# Altium footprint library R20_PCBM.PcbLib: 22 footprints (part 4 of 5)
Each footprint in its own frame and in the unit in brackets; x right, y up, seen from the top. Pads: shape width x height; smd on the part's side, far side on the other; paste and mask are expansions set on the pad; w line width, h text height; cw(c..) or ccw(c..) is an arc to the next point about the centre after c.
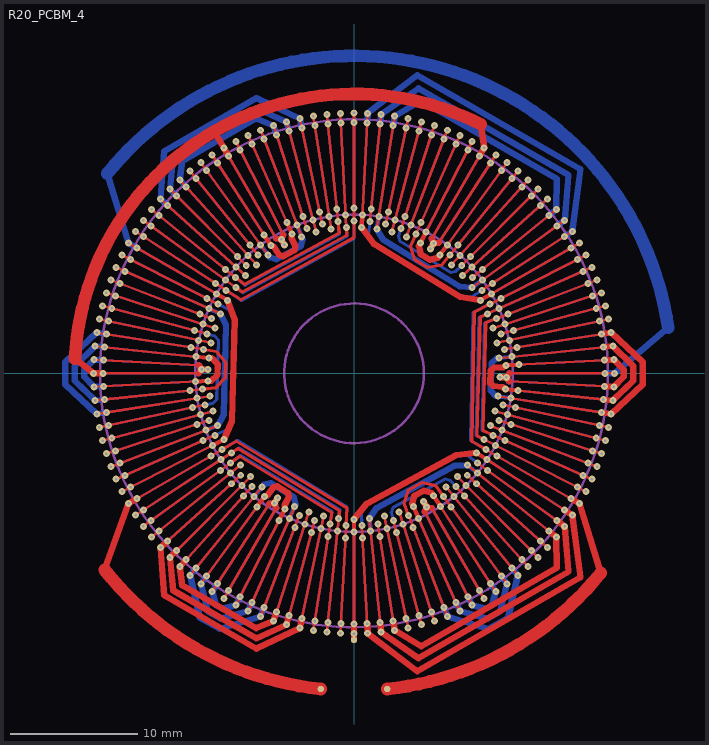
[diagram p3: the footprint, top view; thin cyan lines are the x and y axes]

## R20_PCBM_4 [mm]
pads (3):
  round 0.5 smd paste-2539.97 mask+0.102: A(-2.613,-24.863) B(0,-21) C(2.613,-24.863)
via 0,19.75 diameter 0.55 hole 0.2
via -1.034,19.723 diameter 0.55 hole 0.2
via -2.064,19.642 diameter 0.55 hole 0.2
via -3.09,19.507 diameter 0.55 hole 0.2
via -4.106,19.318 diameter 0.55 hole 0.2
via -5.112,19.077 diameter 0.55 hole 0.2
via -6.103,18.783 diameter 0.55 hole 0.2
via -7.078,18.438 diameter 0.55 hole 0.2
via -8.033,18.042 diameter 0.55 hole 0.2
via -8.966,17.597 diameter 0.55 hole 0.2
via -9.875,17.104 diameter 0.55 hole 0.2
via -10.757,16.564 diameter 0.55 hole 0.2
via -11.609,15.978 diameter 0.55 hole 0.2
via -12.429,15.349 diameter 0.55 hole 0.2
via -13.215,14.677 diameter 0.55 hole 0.2
via -13.965,13.965 diameter 0.55 hole 0.2
via -14.677,13.215 diameter 0.55 hole 0.2
via -15.349,12.429 diameter 0.55 hole 0.2
via -15.978,11.609 diameter 0.55 hole 0.2
via -16.564,10.757 diameter 0.55 hole 0.2
via -17.104,9.875 diameter 0.55 hole 0.2
via -17.597,8.966 diameter 0.55 hole 0.2
via -18.042,8.033 diameter 0.55 hole 0.2
via -18.438,7.078 diameter 0.55 hole 0.2
via -18.783,6.103 diameter 0.55 hole 0.2
via -19.077,5.112 diameter 0.55 hole 0.2
via -19.318,4.106 diameter 0.55 hole 0.2
via -19.507,3.09 diameter 0.55 hole 0.2
via -19.642,2.064 diameter 0.55 hole 0.2
via -19.723,1.034 diameter 0.55 hole 0.2
via -19.75,0 diameter 0.55 hole 0.2
via -19.723,-1.034 diameter 0.55 hole 0.2
via -19.642,-2.064 diameter 0.55 hole 0.2
via -19.507,-3.09 diameter 0.55 hole 0.2
via -19.318,-4.106 diameter 0.55 hole 0.2
via -19.077,-5.112 diameter 0.55 hole 0.2
via -18.783,-6.103 diameter 0.55 hole 0.2
via -18.438,-7.078 diameter 0.55 hole 0.2
via -18.042,-8.033 diameter 0.55 hole 0.2
via -17.597,-8.966 diameter 0.55 hole 0.2
via -18.266,9.307 diameter 0.55 hole 0.2
via -18.728,8.338 diameter 0.55 hole 0.2
via -19.138,7.347 diameter 0.55 hole 0.2
via -19.801,5.306 diameter 0.55 hole 0.2
via -19.497,6.335 diameter 0.55 hole 0.2
via -20.052,4.262 diameter 0.55 hole 0.2
via -18.266,-9.307 diameter 0.55 hole 0.2
via -19.138,-7.347 diameter 0.55 hole 0.2
via -19.801,-5.306 diameter 0.55 hole 0.2
via -20.248,-3.207 diameter 0.55 hole 0.2
via -20.472,-1.073 diameter 0.55 hole 0.2
via -20.472,1.073 diameter 0.55 hole 0.2
via -20.248,3.207 diameter 0.55 hole 0.2
via -20.388,2.143 diameter 0.55 hole 0.2
via -20.388,-2.143 diameter 0.55 hole 0.2
via -20.052,-4.262 diameter 0.55 hole 0.2
via -19.497,-6.335 diameter 0.55 hole 0.2
via -18.728,-8.338 diameter 0.55 hole 0.2
via -1.073,20.472 diameter 0.55 hole 0.2
via -2.143,20.388 diameter 0.55 hole 0.2
via -3.207,20.248 diameter 0.55 hole 0.2
via -5.306,19.801 diameter 0.55 hole 0.2
via -4.262,20.052 diameter 0.55 hole 0.2
via -6.335,19.497 diameter 0.55 hole 0.2
via -17.193,11.165 diameter 0.55 hole 0.2
via -15.931,12.901 diameter 0.55 hole 0.2
via -14.496,14.496 diameter 0.55 hole 0.2
via -12.901,15.931 diameter 0.55 hole 0.2
via -11.165,17.193 diameter 0.55 hole 0.2
via -9.307,18.266 diameter 0.55 hole 0.2
via -7.347,19.138 diameter 0.55 hole 0.2
via -8.338,18.728 diameter 0.55 hole 0.2
via -12.05,16.585 diameter 0.55 hole 0.2
via -13.717,15.234 diameter 0.55 hole 0.2
via -15.234,13.717 diameter 0.55 hole 0.2
via -16.585,12.05 diameter 0.55 hole 0.2
via -20.5,0 diameter 0.55 hole 0.2
via -10.25,17.754 diameter 0.55 hole 0.2
via 0,20.5 diameter 0.55 hole 0.2
via -17.754,10.25 diameter 0.55 hole 0.2
via -17.104,-9.875 diameter 0.55 hole 0.2
via -16.564,-10.757 diameter 0.55 hole 0.2
via -15.978,-11.609 diameter 0.55 hole 0.2
via -15.349,-12.429 diameter 0.55 hole 0.2
via -14.677,-13.215 diameter 0.55 hole 0.2
via -13.965,-13.965 diameter 0.55 hole 0.2
via -13.215,-14.677 diameter 0.55 hole 0.2
via -12.429,-15.349 diameter 0.55 hole 0.2
via -11.609,-15.978 diameter 0.55 hole 0.2
via -10.757,-16.564 diameter 0.55 hole 0.2
via -9.875,-17.104 diameter 0.55 hole 0.2
via -8.966,-17.597 diameter 0.55 hole 0.2
via -8.033,-18.042 diameter 0.55 hole 0.2
via -7.078,-18.438 diameter 0.55 hole 0.2
via -6.103,-18.783 diameter 0.55 hole 0.2
via -5.112,-19.077 diameter 0.55 hole 0.2
via -4.106,-19.318 diameter 0.55 hole 0.2
via -3.09,-19.507 diameter 0.55 hole 0.2
via -2.064,-19.642 diameter 0.55 hole 0.2
via -1.034,-19.723 diameter 0.55 hole 0.2
via 0,-19.75 diameter 0.55 hole 0.2
via 1.034,-19.723 diameter 0.55 hole 0.2
via 2.064,-19.642 diameter 0.55 hole 0.2
via 3.09,-19.507 diameter 0.55 hole 0.2
via 4.106,-19.318 diameter 0.55 hole 0.2
via 5.112,-19.077 diameter 0.55 hole 0.2
via 6.103,-18.783 diameter 0.55 hole 0.2
via 7.078,-18.438 diameter 0.55 hole 0.2
via 8.033,-18.042 diameter 0.55 hole 0.2
via 8.966,-17.597 diameter 0.55 hole 0.2
via 9.875,-17.104 diameter 0.55 hole 0.2
via 10.757,-16.564 diameter 0.55 hole 0.2
via 11.609,-15.978 diameter 0.55 hole 0.2
via 12.429,-15.349 diameter 0.55 hole 0.2
via 13.215,-14.677 diameter 0.55 hole 0.2
via 13.965,-13.965 diameter 0.55 hole 0.2
via 14.677,-13.215 diameter 0.55 hole 0.2
via 15.349,-12.429 diameter 0.55 hole 0.2
via 15.978,-11.609 diameter 0.55 hole 0.2
via 16.564,-10.757 diameter 0.55 hole 0.2
via 1.073,-20.472 diameter 0.55 hole 0.2
via 2.143,-20.388 diameter 0.55 hole 0.2
via 3.207,-20.248 diameter 0.55 hole 0.2
via 5.306,-19.801 diameter 0.55 hole 0.2
via 4.262,-20.052 diameter 0.55 hole 0.2
via 6.335,-19.497 diameter 0.55 hole 0.2
via 17.193,-11.165 diameter 0.55 hole 0.2
via 15.931,-12.901 diameter 0.55 hole 0.2
via 14.496,-14.496 diameter 0.55 hole 0.2
via 12.901,-15.931 diameter 0.55 hole 0.2
via 11.165,-17.193 diameter 0.55 hole 0.2
via 9.307,-18.266 diameter 0.55 hole 0.2
via 7.347,-19.138 diameter 0.55 hole 0.2
via 8.338,-18.728 diameter 0.55 hole 0.2
via 12.05,-16.585 diameter 0.55 hole 0.2
via 13.717,-15.234 diameter 0.55 hole 0.2
via 15.234,-13.717 diameter 0.55 hole 0.2
via 16.585,-12.05 diameter 0.55 hole 0.2
via -17.193,-11.165 diameter 0.55 hole 0.2
via -16.585,-12.05 diameter 0.55 hole 0.2
via -15.931,-12.901 diameter 0.55 hole 0.2
via -14.496,-14.496 diameter 0.55 hole 0.2
via -15.234,-13.717 diameter 0.55 hole 0.2
via -13.717,-15.234 diameter 0.55 hole 0.2
via -1.073,-20.472 diameter 0.55 hole 0.2
via -3.207,-20.248 diameter 0.55 hole 0.2
via -5.306,-19.801 diameter 0.55 hole 0.2
via -7.347,-19.138 diameter 0.55 hole 0.2
via -9.307,-18.266 diameter 0.55 hole 0.2
via -11.165,-17.193 diameter 0.55 hole 0.2
via -12.901,-15.931 diameter 0.55 hole 0.2
via -12.05,-16.585 diameter 0.55 hole 0.2
via -8.338,-18.728 diameter 0.55 hole 0.2
via -6.335,-19.497 diameter 0.55 hole 0.2
via -4.262,-20.052 diameter 0.55 hole 0.2
via -2.143,-20.388 diameter 0.55 hole 0.2
via 10.25,-17.754 diameter 0.55 hole 0.2
via -10.25,-17.754 diameter 0.55 hole 0.2
via -17.754,-10.25 diameter 0.55 hole 0.2
via 0,-20.5 diameter 0.55 hole 0.2
via 0,13 diameter 0.55 hole 0.2
via -0.654,12.483 diameter 0.55 hole 0.2
via -1.359,12.929 diameter 0.55 hole 0.2
via -1.955,12.346 diameter 0.55 hole 0.2
via -2.703,12.716 diameter 0.55 hole 0.2
via -3.235,12.074 diameter 0.55 hole 0.2
via -4.017,12.364 diameter 0.55 hole 0.2
via -4.48,11.67 diameter 0.55 hole 0.2
via -11.138,-5.675 diameter 0.55 hole 0.2
via -11.876,-5.288 diameter 0.55 hole 0.2
via -5.288,11.876 diameter 0.55 hole 0.2
via -7.08,10.903 diameter 0.55 hole 0.2
via -7.347,10.113 diameter 0.55 hole 0.2
via -8.181,10.103 diameter 0.55 hole 0.2
via -8.364,9.289 diameter 0.55 hole 0.2
via -9.192,9.192 diameter 0.55 hole 0.2
via -9.289,8.364 diameter 0.55 hole 0.2
via -10.103,8.181 diameter 0.55 hole 0.2
via -10.113,7.347 diameter 0.55 hole 0.2
via -10.903,7.08 diameter 0.55 hole 0.2
via -10.825,6.25 diameter 0.55 hole 0.2
via -11.583,5.902 diameter 0.55 hole 0.2
via -11.419,5.084 diameter 0.55 hole 0.2
via -12.137,4.659 diameter 0.55 hole 0.2
via -11.888,3.863 diameter 0.55 hole 0.2
via -12.557,3.365 diameter 0.55 hole 0.2
via -12.227,2.599 diameter 0.55 hole 0.2
via -12.84,2.034 diameter 0.55 hole 0.2
via -12.431,1.307 diameter 0.55 hole 0.2
via -12.483,-0.654 diameter 0.55 hole 0.2
via -12.929,-1.359 diameter 0.55 hole 0.2
via -12.346,-1.955 diameter 0.55 hole 0.2
via -12.716,-2.703 diameter 0.55 hole 0.2
via -12.074,-3.235 diameter 0.55 hole 0.2
via -12.364,-4.017 diameter 0.55 hole 0.2
via -11.67,-4.48 diameter 0.55 hole 0.2
via -9.959,5.75 diameter 0.55 hole 0.2
via -10.692,5.448 diameter 0.55 hole 0.2
via -10.506,4.677 diameter 0.55 hole 0.2
via -11.203,4.3 diameter 0.55 hole 0.2
via -10.937,3.554 diameter 0.55 hole 0.2
via -11.591,3.106 diameter 0.55 hole 0.2
via -11.249,2.391 diameter 0.55 hole 0.2
via -11.852,1.877 diameter 0.55 hole 0.2
via -11.437,1.202 diameter 0.55 hole 0.2
via -11.484,-0.602 diameter 0.55 hole 0.2
via -11.934,-1.254 diameter 0.55 hole 0.2
via -11.358,-1.799 diameter 0.55 hole 0.2
via -11.738,-2.495 diameter 0.55 hole 0.2
via -11.108,-2.976 diameter 0.55 hole 0.2
via -11.413,-3.708 diameter 0.55 hole 0.2
via -10.736,-4.121 diameter 0.55 hole 0.2
via -10.963,-4.881 diameter 0.55 hole 0.2
via -10.247,-5.221 diameter 0.55 hole 0.2
via -11.996,0.314 diameter 0.55 hole 0.2
via -11.496,0.301 diameter 0.55 hole 0.2
via -5.487,10.106 diameter 0.55 hole 0.2
via -1.254,11.934 diameter 0.55 hole 0.2
via -1.799,11.358 diameter 0.55 hole 0.2
via -3.708,11.413 diameter 0.55 hole 0.2
via -6.536,10.064 diameter 0.55 hole 0.2
via -8.485,8.485 diameter 0.55 hole 0.2
via -5.726,10.546 diameter 0.55 hole 0.2
via -4.881,10.963 diameter 0.55 hole 0.2
via -6.76,9.304 diameter 0.55 hole 0.2
via -4.121,10.736 diameter 0.55 hole 0.2
via -2.976,11.108 diameter 0.55 hole 0.2
via -2.495,11.738 diameter 0.55 hole 0.2
via -7.695,8.546 diameter 0.55 hole 0.2
via -8.546,7.695 diameter 0.55 hole 0.2
via -10.064,6.536 diameter 0.55 hole 0.2
via -9.326,7.552 diameter 0.55 hole 0.2
via -9.304,6.76 diameter 0.55 hole 0.2
via -7.552,9.326 diameter 0.55 hole 0.2
via -0.602,11.484 diameter 0.55 hole 0.2
via 0,12 diameter 0.55 hole 0.2
via -11.258,-6.5 diameter 0.55 hole 0.2
via -10.483,-6.808 diameter 0.55 hole 0.2
via -10.517,-7.641 diameter 0.55 hole 0.2
via -9.714,-7.866 diameter 0.55 hole 0.2
via -9.661,-8.699 diameter 0.55 hole 0.2
via -8.839,-8.839 diameter 0.55 hole 0.2
via -8.699,-9.661 diameter 0.55 hole 0.2
via -7.866,-9.714 diameter 0.55 hole 0.2
via 10.483,-6.808 diameter 0.55 hole 0.2
via 10.517,-7.641 diameter 0.55 hole 0.2
via -7.641,-10.517 diameter 0.55 hole 0.2
via -5.902,-11.583 diameter 0.55 hole 0.2
via -5.084,-11.419 diameter 0.55 hole 0.2
via -4.659,-12.137 diameter 0.55 hole 0.2
via -3.863,-11.888 diameter 0.55 hole 0.2
via -3.365,-12.557 diameter 0.55 hole 0.2
via -2.599,-12.227 diameter 0.55 hole 0.2
via -2.034,-12.84 diameter 0.55 hole 0.2
via -1.307,-12.431 diameter 0.55 hole 0.2
via -0.68,-12.982 diameter 0.55 hole 0.2
via 0,-12.5 diameter 0.55 hole 0.2
via 0.68,-12.982 diameter 0.55 hole 0.2
via 1.307,-12.431 diameter 0.55 hole 0.2
via 2.034,-12.84 diameter 0.55 hole 0.2
via 2.599,-12.227 diameter 0.55 hole 0.2
via 3.365,-12.557 diameter 0.55 hole 0.2
via 3.863,-11.888 diameter 0.55 hole 0.2
via 4.659,-12.137 diameter 0.55 hole 0.2
via 5.084,-11.419 diameter 0.55 hole 0.2
via 6.808,-10.483 diameter 0.55 hole 0.2
via 7.641,-10.517 diameter 0.55 hole 0.2
via 7.866,-9.714 diameter 0.55 hole 0.2
via 8.699,-9.661 diameter 0.55 hole 0.2
via 8.839,-8.839 diameter 0.55 hole 0.2
via 9.661,-8.699 diameter 0.55 hole 0.2
via 9.714,-7.866 diameter 0.55 hole 0.2
via 0,-11.5 diameter 0.55 hole 0.2
via 0.628,-11.984 diameter 0.55 hole 0.2
via 1.202,-11.437 diameter 0.55 hole 0.2
via 1.877,-11.852 diameter 0.55 hole 0.2
via 2.391,-11.249 diameter 0.55 hole 0.2
via 3.106,-11.591 diameter 0.55 hole 0.2
via 3.554,-10.937 diameter 0.55 hole 0.2
via 4.3,-11.203 diameter 0.55 hole 0.2
via 4.677,-10.506 diameter 0.55 hole 0.2
via 6.263,-9.645 diameter 0.55 hole 0.2
via 7.053,-9.708 diameter 0.55 hole 0.2
via 7.237,-8.937 diameter 0.55 hole 0.2
via 8.03,-8.918 diameter 0.55 hole 0.2
via 8.132,-8.132 diameter 0.55 hole 0.2
via 8.918,-8.03 diameter 0.55 hole 0.2
via 8.937,-7.237 diameter 0.55 hole 0.2
via 9.708,-7.053 diameter 0.55 hole 0.2
via 9.645,-6.263 diameter 0.55 hole 0.2
via 5.726,-10.546 diameter 0.55 hole 0.2
via 5.487,-10.106 diameter 0.55 hole 0.2
via -6.009,-9.805 diameter 0.55 hole 0.2
via -9.708,-7.053 diameter 0.55 hole 0.2
via -8.937,-7.237 diameter 0.55 hole 0.2
via -8.03,-8.918 diameter 0.55 hole 0.2
via -5.448,-10.692 diameter 0.55 hole 0.2
via -3.106,-11.591 diameter 0.55 hole 0.2
via -6.27,-10.232 diameter 0.55 hole 0.2
via -7.053,-9.708 diameter 0.55 hole 0.2
via -4.677,-10.506 diameter 0.55 hole 0.2
via -7.237,-8.937 diameter 0.55 hole 0.2
via -8.132,-8.132 diameter 0.55 hole 0.2
via -8.918,-8.03 diameter 0.55 hole 0.2
via -3.554,-10.937 diameter 0.55 hole 0.2
via -2.391,-11.249 diameter 0.55 hole 0.2
via -0.628,-11.984 diameter 0.55 hole 0.2
via -1.877,-11.852 diameter 0.55 hole 0.2
via -1.202,-11.437 diameter 0.55 hole 0.2
via -4.3,-11.203 diameter 0.55 hole 0.2
via -9.645,-6.263 diameter 0.55 hole 0.2
via -10.392,-6 diameter 0.55 hole 0.2
via 17.104,-9.875 diameter 0.55 hole 0.2
via 17.597,-8.966 diameter 0.55 hole 0.2
via 18.042,-8.033 diameter 0.55 hole 0.2
via 18.438,-7.078 diameter 0.55 hole 0.2
via 18.783,-6.103 diameter 0.55 hole 0.2
via 19.077,-5.112 diameter 0.55 hole 0.2
via 19.318,-4.106 diameter 0.55 hole 0.2
via 19.507,-3.09 diameter 0.55 hole 0.2
via 19.642,-2.064 diameter 0.55 hole 0.2
via 19.723,-1.034 diameter 0.55 hole 0.2
via 19.75,0 diameter 0.55 hole 0.2
via 19.723,1.034 diameter 0.55 hole 0.2
via 19.642,2.064 diameter 0.55 hole 0.2
via 19.507,3.09 diameter 0.55 hole 0.2
via 19.318,4.106 diameter 0.55 hole 0.2
via 19.077,5.112 diameter 0.55 hole 0.2
via 18.783,6.103 diameter 0.55 hole 0.2
via 18.438,7.078 diameter 0.55 hole 0.2
via 18.042,8.033 diameter 0.55 hole 0.2
via 17.597,8.966 diameter 0.55 hole 0.2
via 17.104,9.875 diameter 0.55 hole 0.2
via 16.564,10.757 diameter 0.55 hole 0.2
via 15.978,11.609 diameter 0.55 hole 0.2
via 15.349,12.429 diameter 0.55 hole 0.2
via 14.677,13.215 diameter 0.55 hole 0.2
via 13.965,13.965 diameter 0.55 hole 0.2
via 13.215,14.677 diameter 0.55 hole 0.2
via 12.429,15.349 diameter 0.55 hole 0.2
via 11.609,15.978 diameter 0.55 hole 0.2
via 10.757,16.564 diameter 0.55 hole 0.2
via 9.875,17.104 diameter 0.55 hole 0.2
via 8.966,17.597 diameter 0.55 hole 0.2
via 8.033,18.042 diameter 0.55 hole 0.2
via 7.078,18.438 diameter 0.55 hole 0.2
via 6.103,18.783 diameter 0.55 hole 0.2
via 5.112,19.077 diameter 0.55 hole 0.2
via 4.106,19.318 diameter 0.55 hole 0.2
via 3.09,19.507 diameter 0.55 hole 0.2
via 2.064,19.642 diameter 0.55 hole 0.2
via 1.034,19.723 diameter 0.55 hole 0.2
via 17.193,11.165 diameter 0.55 hole 0.2
via 16.585,12.05 diameter 0.55 hole 0.2
via 15.931,12.901 diameter 0.55 hole 0.2
via 14.496,14.496 diameter 0.55 hole 0.2
via 15.234,13.717 diameter 0.55 hole 0.2
via 13.717,15.234 diameter 0.55 hole 0.2
via 1.073,20.472 diameter 0.55 hole 0.2
via 3.207,20.248 diameter 0.55 hole 0.2
via 5.306,19.801 diameter 0.55 hole 0.2
via 7.347,19.138 diameter 0.55 hole 0.2
via 9.307,18.266 diameter 0.55 hole 0.2
via 11.165,17.193 diameter 0.55 hole 0.2
via 12.901,15.931 diameter 0.55 hole 0.2
via 12.05,16.585 diameter 0.55 hole 0.2
via 8.338,18.728 diameter 0.55 hole 0.2
via 6.335,19.497 diameter 0.55 hole 0.2
via 4.262,20.052 diameter 0.55 hole 0.2
via 2.143,20.388 diameter 0.55 hole 0.2
via 18.266,-9.307 diameter 0.55 hole 0.2
via 18.728,-8.338 diameter 0.55 hole 0.2
via 19.138,-7.347 diameter 0.55 hole 0.2
via 19.801,-5.306 diameter 0.55 hole 0.2
via 19.497,-6.335 diameter 0.55 hole 0.2
via 20.052,-4.262 diameter 0.55 hole 0.2
via 18.266,9.307 diameter 0.55 hole 0.2
via 19.138,7.347 diameter 0.55 hole 0.2
via 19.801,5.306 diameter 0.55 hole 0.2
via 20.248,3.207 diameter 0.55 hole 0.2
via 20.472,1.073 diameter 0.55 hole 0.2
via 20.472,-1.073 diameter 0.55 hole 0.2
via 20.248,-3.207 diameter 0.55 hole 0.2
via 20.388,-2.143 diameter 0.55 hole 0.2
via 20.388,2.143 diameter 0.55 hole 0.2
via 20.052,4.262 diameter 0.55 hole 0.2
via 19.497,6.335 diameter 0.55 hole 0.2
via 18.728,8.338 diameter 0.55 hole 0.2
via 10.25,17.754 diameter 0.55 hole 0.2
via 20.5,0 diameter 0.55 hole 0.2
via 17.754,-10.25 diameter 0.55 hole 0.2
via 17.754,10.25 diameter 0.55 hole 0.2
via 11.258,-6.5 diameter 0.55 hole 0.2
via 11.138,-5.675 diameter 0.55 hole 0.2
via 11.876,-5.288 diameter 0.55 hole 0.2
via 11.67,-4.48 diameter 0.55 hole 0.2
via 12.364,-4.017 diameter 0.55 hole 0.2
via 12.074,-3.235 diameter 0.55 hole 0.2
via 12.716,-2.703 diameter 0.55 hole 0.2
via 12.346,-1.955 diameter 0.55 hole 0.2
via 0.654,12.483 diameter 0.55 hole 0.2
via 1.359,12.929 diameter 0.55 hole 0.2
via 12.929,-1.359 diameter 0.55 hole 0.2
via 12.982,0.68 diameter 0.55 hole 0.2
via 12.431,1.307 diameter 0.55 hole 0.2
via 12.84,2.034 diameter 0.55 hole 0.2
via 12.227,2.599 diameter 0.55 hole 0.2
via 12.557,3.365 diameter 0.55 hole 0.2
via 11.888,3.863 diameter 0.55 hole 0.2
via 12.137,4.659 diameter 0.55 hole 0.2
via 11.419,5.084 diameter 0.55 hole 0.2
via 11.583,5.902 diameter 0.55 hole 0.2
via 10.825,6.25 diameter 0.55 hole 0.2
via 10.903,7.08 diameter 0.55 hole 0.2
via 10.113,7.347 diameter 0.55 hole 0.2
via 10.103,8.181 diameter 0.55 hole 0.2
via 9.289,8.364 diameter 0.55 hole 0.2
via 9.192,9.192 diameter 0.55 hole 0.2
via 8.364,9.289 diameter 0.55 hole 0.2
via 8.181,10.103 diameter 0.55 hole 0.2
via 7.347,10.113 diameter 0.55 hole 0.2
via 5.675,11.138 diameter 0.55 hole 0.2
via 5.288,11.876 diameter 0.55 hole 0.2
via 4.48,11.67 diameter 0.55 hole 0.2
via 4.017,12.364 diameter 0.55 hole 0.2
via 3.235,12.074 diameter 0.55 hole 0.2
via 2.703,12.716 diameter 0.55 hole 0.2
via 1.955,12.346 diameter 0.55 hole 0.2
via 9.959,5.75 diameter 0.55 hole 0.2
via 10.064,6.536 diameter 0.55 hole 0.2
via 9.304,6.76 diameter 0.55 hole 0.2
via 9.326,7.552 diameter 0.55 hole 0.2
via 8.546,7.695 diameter 0.55 hole 0.2
via 8.485,8.485 diameter 0.55 hole 0.2
via 7.695,8.546 diameter 0.55 hole 0.2
via 7.552,9.326 diameter 0.55 hole 0.2
via 6.76,9.304 diameter 0.55 hole 0.2
via 5.221,10.247 diameter 0.55 hole 0.2
via 4.881,10.963 diameter 0.55 hole 0.2
via 4.121,10.736 diameter 0.55 hole 0.2
via 3.708,11.413 diameter 0.55 hole 0.2
via 2.976,11.108 diameter 0.55 hole 0.2
via 2.495,11.738 diameter 0.55 hole 0.2
via 1.799,11.358 diameter 0.55 hole 0.2
via 1.254,11.934 diameter 0.55 hole 0.2
via 0.602,11.484 diameter 0.55 hole 0.2
via 6.27,10.232 diameter 0.55 hole 0.2
via 6.009,9.805 diameter 0.55 hole 0.2
via 11.496,-0.301 diameter 0.55 hole 0.2
via 10.963,-4.881 diameter 0.55 hole 0.2
via 10.736,-4.121 diameter 0.55 hole 0.2
via 11.738,-2.495 diameter 0.55 hole 0.2
via 11.984,0.628 diameter 0.55 hole 0.2
via 11.591,3.106 diameter 0.55 hole 0.2
via 11.996,-0.314 diameter 0.55 hole 0.2
via 11.934,-1.254 diameter 0.55 hole 0.2
via 11.437,1.202 diameter 0.55 hole 0.2
via 11.358,-1.799 diameter 0.55 hole 0.2
via 11.108,-2.976 diameter 0.55 hole 0.2
via 11.413,-3.708 diameter 0.55 hole 0.2
via 11.249,2.391 diameter 0.55 hole 0.2
via 10.937,3.554 diameter 0.55 hole 0.2
via 10.692,5.448 diameter 0.55 hole 0.2
via 11.203,4.3 diameter 0.55 hole 0.2
via 10.506,4.677 diameter 0.55 hole 0.2
via 11.852,1.877 diameter 0.55 hole 0.2
via 10.247,-5.221 diameter 0.55 hole 0.2
via 10.392,-6 diameter 0.55 hole 0.2
Top Layer:
  lines w0.2: -20.5,0 -12.25,0 ; -20.472,-1.073 -11.484,-0.602 ; -20.472,1.073 -12.233,0.641 ; -20.388,-2.143 -11.934,-1.254 ; -20.388,2.143 -11.437,1.202 ; -20.248,-3.207 -11.358,-1.799 ; -20.248,3.207 -11.852,1.877 ; -20.052,-4.262 -11.738,-2.495 ; -20.052,4.262 -11.249,2.391 ; -19.801,-5.306 -11.108,-2.976 ; -19.801,5.306 -11.591,3.106 ; -19.497,-6.335 -11.413,-3.708 ; -19.497,6.335 -10.937,3.554 ; -19.138,-7.347 -10.736,-4.121 ; -19.138,7.347 -11.203,4.3 ; -18.728,-8.338 -10.963,-4.881 ; -18.728,8.338 -10.506,4.677 ; -18.266,-9.307 -10.247,-5.221 ; -18.266,9.307 -10.692,5.448 ; -17.754,-10.25 -10.392,-6 ; -17.754,10.25 -9.959,5.75 ; -17.193,-11.165 -9.645,-6.263 ; -17.193,11.165 -10.064,6.536 ; -16.585,-12.05 -9.708,-7.053 ; -16.585,12.05 -9.304,6.76 ; -15.931,-12.901 -8.937,-7.237 ; -15.931,12.901 -9.326,7.552 ; -15.234,-13.717 -8.918,-8.03 ; -15.234,13.717 -8.546,7.695 ; -14.496,-14.496 -8.132,-8.132 ; -14.496,14.496 -8.485,8.485 ; -13.717,-15.234 -8.03,-8.918 ; -13.717,15.234 -7.695,8.546 ; -12.901,-15.931 -7.237,-8.937 ; -12.901,15.931 -7.552,9.326 ; -12.05,-16.585 -7.053,-9.708 ; -12.05,16.585 -6.76,9.304 ; -11.165,-17.193 -6.672,-10.274 ; -11.165,17.193 -6.536,10.064 ; -10.25,-17.754 -6.125,-10.609 ; -10.25,17.754 -6.125,10.609 ; -9.307,-18.266 -5.448,-10.692 ; -9.307,18.266 -5.561,10.915 ; -8.338,-18.728 -4.677,-10.506 ; -8.338,18.728 -4.881,10.963 ; -7.347,-19.138 -4.3,-11.203 ; -7.347,19.138 -4.121,10.736 ; -6.335,-19.497 -3.554,-10.937 ; -6.335,19.497 -3.708,11.413 ; -5.306,-19.801 -3.106,-11.591 ; -5.306,19.801 -2.976,11.108 ; -4.262,-20.052 -2.391,-11.249 ; -4.262,20.052 -2.495,11.738 ; -3.207,-20.248 -1.877,-11.852 ; -3.207,20.248 -1.799,11.358 ; -2.143,-20.388 -1.202,-11.437 ; -2.143,20.388 -1.254,11.934 ; -1.073,-20.472 -0.628,-11.984 ; -1.073,20.472 -0.602,11.484 ; 0,-20.5 0,-11.5 ; 0,12 0,20.5 ; 0.602,11.484 1.073,20.472 ; 0.628,-11.984 1.073,-20.472 ; 1.202,-11.437 2.143,-20.388 ; 1.254,11.934 2.143,20.388 ; 1.799,11.358 3.207,20.248 ; 1.877,-11.852 3.207,-20.248 ; 2.391,-11.249 4.262,-20.052 ; 2.495,11.738 4.262,20.052 ; 2.976,11.108 5.306,19.801 ; 3.106,-11.591 5.306,-19.801 ; 3.554,-10.937 6.335,-19.497 ; 3.708,11.413 6.335,19.497 ; 4.121,10.736 7.347,19.138 ; 4.3,-11.203 7.347,-19.138 ; 4.677,-10.506 8.338,-18.728 ; 4.881,10.963 8.338,18.728 ; 5.221,10.247 9.307,18.266 ; 5.561,-10.915 9.307,-18.266 ; 6.125,-10.609 10.25,-17.754 ; 6.125,10.609 10.25,17.754 ; 6.263,-9.645 11.165,-17.193 ; 6.672,10.274 11.165,17.193 ; 6.76,9.304 12.05,16.585 ; 7.053,-9.708 12.05,-16.585 ; 7.237,-8.937 12.901,-15.931 ; 7.552,9.326 12.901,15.931 ; 7.695,8.546 13.717,15.234 ; 8.03,-8.918 13.717,-15.234 ; 8.132,-8.132 14.496,-14.496 ; 8.485,8.485 14.496,14.496 ; 8.546,7.695 15.234,13.717 ; 8.918,-8.03 15.234,-13.717 ; 8.937,-7.237 15.931,-12.901 ; 9.304,6.76 16.585,12.05 ; 9.326,7.552 15.931,12.901 ; 9.645,-6.263 17.193,-11.165 ; 9.708,-7.053 16.585,-12.05 ; 9.959,5.75 17.754,10.25 ; 10.064,6.536 17.193,11.165 ; 10.247,-5.221 18.266,-9.307 ; 10.392,-6 17.754,-10.25 ; 10.506,4.677 18.728,8.338 ; 10.692,5.448 18.266,9.307 ; 10.736,-4.121 19.138,-7.347 ; 10.937,3.554 19.497,6.335 ; 10.963,-4.881 18.728,-8.338 ; 11.108,-2.976 19.801,-5.306 ; 11.203,4.3 19.138,7.347 ; 11.249,2.391 20.052,4.262 ; 11.358,-1.799 20.248,-3.207 ; 11.413,-3.708 19.497,-6.335 ; 11.437,1.202 20.388,2.143 ; 11.591,3.106 19.801,5.306 ; 11.738,-2.495 20.052,-4.262 ; 11.852,1.877 20.248,3.207 ; 11.934,-1.254 20.388,-2.143 ; 11.984,0.628 20.472,1.073 ; 12.233,-0.641 20.472,-1.073 ; 12.25,0 20.5,0
  lines w0.25: -11.934,-1.254 -10.89,-1.145 -10.138,-0.358 -10.106,0.861 -10.843,1.717 -11.852,1.877 ; -10.392,-6 -9.27,-5.352 -0.556,-10.614 -0.628,-11.984 ; -10.064,6.536 -8.914,5.789 0,10.704 0,12 ; -9.708,-7.053 -8.995,-6.535 -1.739,-10.981 -1.877,-11.852 ; -9.645,-6.263 -9.126,-5.927 -1.137,-10.822 -1.202,-11.437 ; -9.326,7.552 -8.64,6.997 -1.162,11.057 -1.254,11.934 ; -9.304,6.76 -8.804,6.396 -0.57,10.867 -0.602,11.484 ; 4.3,-11.203 3.934,-10.249 4.308,-9.182 5.379,-8.601 6.436,-8.858 7.053,-9.708 ; 4.881,10.963 4.454,10.003 4.759,8.959 5.798,8.322 6.909,8.532 7.552,9.326 ; 10.247,-5.221 9.696,-4.94 9.941,4.426 10.506,4.677 ; 10.392,-6 9.27,-5.352 9.47,4.825 10.692,5.448 ; 10.963,-4.881 10.157,-4.522 10.379,3.984 11.203,4.3
  lines w0.35: -12.483,-0.654 -11.484,-0.602 ; -12.431,1.307 -11.437,1.202 ; -11.138,-5.675 -10.247,-5.221 ; -10.825,6.25 -9.959,5.75 ; -7.641,-10.517 -7.053,-9.708 ; -7.08,10.903 -6.536,10.064 ; -5.902,-11.583 -5.448,-10.692 ; -5.288,11.876 -4.881,10.963 ; 0,-12.5 0,-11.5 ; 0.602,11.484 0.654,12.483 ; 4.677,-10.506 5.084,-11.419 ; 5.221,10.247 5.675,11.138 ; 6.263,-9.645 6.808,-10.483 ; 6.76,9.304 7.347,10.113 ; 9.645,-6.263 10.483,-6.808 ; 9.959,5.75 10.825,6.25 ; 11.934,-1.254 12.929,-1.359 ; 11.984,0.628 12.982,0.68
  lines w0.5: -21.97,1.151 -20.5,0 -19.75,0 ; -19.633,-15.477 -17.753,-10.25 -17.104,-9.875 ; -14.677,-13.215 -15.234,-13.717 -14.937,-17.489 -7.678,-21.681 -4.262,-20.052 -4.106,-19.318 ; -13.965,-13.965 -14.496,-14.496 -14.227,-17.107 -7.701,-20.875 -5.306,-19.801 -5.112,-19.077 ; -13.215,-14.677 -13.717,-15.234 -13.53,-16.709 -7.705,-20.072 -6.335,-19.497 -6.103,-18.783 ; -12.25,0 -11.996,0.314 ; -12.233,0.641 -11.996,0.314 ; -11.496,0.301 -11.996,0.314 ; -11.484,-0.602 -11.235,-0.589 -10.749,-0.141 -10.727,0.703 -11.188,1.176 -11.437,1.202 ; -11,19.053 -10.25,17.754 -9.875,17.104 ; -10.247,-5.221 -9.607,-3.77 -9.396,4.268 -9.959,5.75 ; -7.053,-9.708 -6.781,-9.596 -6.349,-8.983 -6.051,-8.9 -5.182,-9.432 -5.122,-9.735 -5.471,-10.399 -5.448,-10.692 ; -6.672,-10.274 -6.27,-10.232 ; -6.536,10.064 -6.27,9.937 -5.87,9.303 -5.577,9.204 -4.681,9.69 -4.605,9.99 -4.919,10.671 -4.881,10.963 ; -6.125,-10.609 -6.27,-10.232 ; -6.125,10.609 -5.726,10.546 ; -6.009,-9.805 -6.27,-10.232 ; -5.561,10.915 -5.726,10.546 ; -5.487,10.106 -5.726,10.546 ; 0,-21 0,-20.5 0,-20 0,-19.75 ; 0,-11.5 1.002,-10.271 8.068,-6.435 9.645,-6.263 ; 0.602,11.484 1.538,10.205 8.394,6.004 9.959,5.75 ; 1.034,-19.723 1.073,-20.472 4.99,-23.475 17.835,-16.059 17.193,-11.165 16.564,-10.757 ; 2.064,-19.642 2.143,-20.388 5.076,-22.433 16.889,-15.612 16.585,-12.05 15.978,-11.609 ; 3.09,-19.507 3.207,-20.248 5.29,-21.483 15.96,-15.323 15.931,-12.901 15.349,-12.429 ; 4.677,-10.506 4.576,-10.277 4.755,-9.641 5.496,-9.239 6.127,-9.435 6.263,-9.645 ; 5.221,10.247 5.107,10.024 5.253,9.379 5.972,8.938 6.613,9.101 6.76,9.304 ; 5.487,-10.106 5.726,-10.546 ; 5.561,-10.915 5.726,-10.546 ; 6.009,9.805 6.27,10.232 ; 6.125,-10.609 5.726,-10.546 ; 6.125,10.609 6.27,10.232 ; 6.672,10.274 6.27,10.232 ; 9.875,17.104 10.25,17.753 9.988,19.602 ; 11.496,-0.301 11.996,-0.314 ; 11.934,-1.254 11.701,-1.075 10.954,-1.007 10.733,-0.791 10.76,0.228 10.991,0.432 11.741,0.461 11.984,0.628 ; 12.233,-0.641 11.996,-0.314 ; 12.25,0 11.996,-0.314 ; 17.104,-9.875 17.753,-10.25 19.429,-15.733 ; 19.507,-3.09 20.248,-3.207 22.732,-0.893 22.732,0.893 20.248,3.207 19.507,3.09 ; 19.642,-2.064 20.388,-2.143 21.992,-0.576 21.992,0.576 20.388,2.143 19.642,2.064 ; 19.723,-1.034 20.472,-1.073 21.248,-0.278 21.248,0.278 20.472,1.073 19.723,1.034
  lines w1: -21.97,1.151 cw(c0,0) 9.988,19.602 ; -19.633,-15.477 ccw(c0,0) -2.613,-24.863 ; 2.613,-24.863 ccw(c0,0) 19.429,-15.733
Layer 1:
  lines w0.2: -20.5,0 -12.25,0 ; -20.472,-1.073 -11.484,-0.602 ; -20.472,1.073 -12.233,0.641 ; -20.388,-2.143 -11.934,-1.254 ; -20.388,2.143 -11.437,1.202 ; -20.248,-3.207 -11.358,-1.799 ; -20.248,3.207 -11.852,1.877 ; -20.052,-4.262 -11.738,-2.495 ; -20.052,4.262 -11.738,2.495 -11.249,2.391 ; -19.801,-5.306 -11.108,-2.976 ; -19.801,5.306 -11.591,3.106 ; -19.497,-6.335 -11.413,-3.708 ; -19.497,6.335 -10.937,3.554 ; -19.138,-7.347 -10.736,-4.121 ; -19.138,7.347 -11.203,4.3 ; -18.728,-8.338 -10.963,-4.881 ; -18.728,8.338 -10.506,4.677 ; -18.266,-9.307 -10.247,-5.221 ; -18.266,9.307 -10.692,5.448 ; -17.754,-10.25 -10.392,-6 ; -17.754,10.25 -9.959,5.75 ; -17.193,-11.165 -9.645,-6.263 ; -17.193,11.165 -10.064,6.536 ; -16.585,-12.05 -9.708,-7.053 ; -16.585,12.05 -9.304,6.76 ; -15.931,-12.901 -8.937,-7.237 ; -15.931,12.901 -9.326,7.552 ; -15.234,-13.717 -8.918,-8.03 ; -15.234,13.717 -8.546,7.695 ; -14.496,-14.496 -8.132,-8.132 ; -14.496,14.496 -8.485,8.485 ; -13.717,-15.234 -8.03,-8.918 ; -13.717,15.234 -7.695,8.546 ; -12.901,-15.931 -7.237,-8.937 ; -12.901,15.931 -7.552,9.326 ; -12.05,-16.585 -7.053,-9.708 ; -12.05,16.585 -6.76,9.304 ; -11.165,-17.193 -6.672,-10.274 ; -11.165,17.193 -6.536,10.064 ; -10.25,-17.754 -6.125,-10.609 ; -10.25,17.754 -6.125,10.609 ; -9.307,-18.266 -5.448,-10.692 ; -9.307,18.266 -5.561,10.915 ; -8.338,-18.728 -4.677,-10.506 ; -8.338,18.728 -4.881,10.963 ; -7.347,-19.138 -4.3,-11.203 ; -7.347,19.138 -4.121,10.736 ; -6.335,-19.497 -3.554,-10.937 ; -6.335,19.497 -3.708,11.413 ; -5.306,-19.801 -3.106,-11.591 ; -5.306,19.801 -2.976,11.108 ; -4.262,-20.052 -2.391,-11.249 ; -4.262,20.052 -2.495,11.738 ; -3.207,-20.248 -1.877,-11.852 ; -3.207,20.248 -1.799,11.358 ; -2.143,-20.388 -1.202,-11.437 ; -2.143,20.388 -1.254,11.934 ; -1.073,-20.472 -0.628,-11.984 ; -1.073,20.472 -0.602,11.484 ; 0,-20.5 0,-11.5 ; 0,12 0,20.5 ; 0.602,11.484 1.073,20.472 ; 0.628,-11.984 1.073,-20.472 ; 1.202,-11.437 2.143,-20.388 ; 1.254,11.934 2.143,20.388 ; 1.799,11.358 3.207,20.248 ; 1.877,-11.852 3.207,-20.248 ; 2.391,-11.249 4.262,-20.052 ; 2.495,11.738 4.262,20.052 ; 2.976,11.108 5.306,19.801 ; 3.106,-11.591 5.306,-19.801 ; 3.554,-10.937 3.708,-11.413 6.335,-19.497 ; 3.708,11.413 6.335,19.497 ; 4.121,10.736 7.347,19.138 ; 4.3,-11.203 7.347,-19.138 ; 4.677,-10.506 8.338,-18.728 ; 4.881,10.963 8.338,18.728 ; 5.221,10.247 9.307,18.266 ; 5.561,-10.915 9.307,-18.266 ; 6.125,-10.609 10.25,-17.754 ; 6.125,10.609 10.25,17.754 ; 6.263,-9.645 11.165,-17.193 ; 6.672,10.274 11.165,17.193 ; 6.76,9.304 12.05,16.585 ; 7.053,-9.708 12.05,-16.585 ; 7.237,-8.937 12.901,-15.931 ; 7.552,9.326 12.901,15.931 ; 7.695,8.546 8.03,8.918 13.717,15.234 ; 8.03,-8.918 13.717,-15.234 ; 8.132,-8.132 14.496,-14.496 ; 8.485,8.485 14.496,14.496 ; 8.546,7.695 15.234,13.717 ; 8.918,-8.03 15.234,-13.717 ; 8.937,-7.237 15.931,-12.901 ; 9.304,6.76 16.585,12.05 ; 9.326,7.552 15.931,12.901 ; 9.645,-6.263 17.193,-11.165 ; 9.708,-7.053 16.585,-12.05 ; 9.959,5.75 17.754,10.25 ; 10.064,6.536 17.193,11.165 ; 10.247,-5.221 18.266,-9.307 ; 10.392,-6 17.754,-10.25 ; 10.506,4.677 18.728,8.338 ; 10.692,5.448 18.266,9.307 ; 10.736,-4.121 19.138,-7.347 ; 10.937,3.554 19.497,6.335 ; 10.963,-4.881 18.728,-8.338 ; 11.108,-2.976 19.801,-5.306 ; 11.203,4.3 19.138,7.347 ; 11.249,2.391 20.052,4.262 ; 11.358,-1.799 20.248,-3.207 ; 11.413,-3.708 19.497,-6.335 ; 11.437,1.202 20.388,2.143 ; 11.591,3.106 19.801,5.306 ; 11.738,-2.495 20.052,-4.262 ; 11.852,1.877 20.248,3.207 ; 11.934,-1.254 20.388,-2.143 ; 11.984,0.628 20.472,1.073 ; 12.233,-0.641 20.472,-1.073 ; 12.25,0 20.5,0
  lines w0.25: -11.738,-2.495 -10.76,-2.287 -10.173,-1.708 -10.07,2.238 -10.625,2.847 -11.591,3.106 ; -11.413,-3.708 -10.462,-3.399 -9.735,-2.175 -9.607,2.682 -10.269,3.942 -11.203,4.3 ; -10.963,-4.881 -10.049,-4.474 -9.311,-2.894 -9.147,3.377 -9.801,4.994 -10.692,5.448 ; -8.937,-7.237 -8.16,-6.608 -6.643,-6.942 -3.17,-9.071 -2.183,-10.271 -2.391,-11.249 ; -8.918,-8.03 -8.175,-7.36 -6.612,-7.524 -3.483,-9.441 -2.808,-10.481 -3.106,-11.591 ; -8.546,7.695 -7.803,7.026 -6.271,7.281 -2.691,9.224 -1.643,10.371 -1.799,11.358 ; -8.485,8.485 -7.673,7.673 -6.435,7.737 -3.21,9.488 -2.287,10.76 -2.495,11.738 ; -8.132,-8.132 -7.867,-7.867 -6.748,-8 -3.941,-9.72 -3.414,-10.508 -3.554,-10.937 ; -8.03,-8.918 -7.501,-8.33 -7.002,-8.372 -4.342,-10.002 -4.032,-10.503 ; -7.695,8.546 -7.393,8.211 -6.447,8.273 -3.554,9.843 -2.88,10.747 -2.976,11.108 ; -7.552,9.326 -7.08,8.743 ; -4.3,-11.203 -4.032,-10.503 ; -3.708,11.413 -3.464,10.661 -3.749,10.249 -6.491,8.761 -7.08,8.743 ; 0.628,-11.984 0.576,-10.985 1.649,-9.61 7.161,-6.617 8.899,-6.466 9.708,-7.053 ; 1.254,11.934 1.15,10.94 2.15,9.51 7.498,6.233 9.225,5.991 10.064,6.536 ; 1.877,-11.852 1.721,-10.865 2.481,-9.661 6.751,-7.343 8.175,-7.36 8.918,-8.03 ; 2.495,11.738 2.287,10.76 2.983,9.518 7.126,6.979 8.549,6.923 9.326,7.552 ; 3.106,-11.591 2.847,-10.625 3.097,-9.84 6.566,-7.956 7.36,-8.175 8.03,-8.918 ; 3.708,11.413 3.399,10.462 3.607,9.665 6.973,7.602 7.778,7.778 8.485,8.485 ; 10.736,-4.121 9.803,-3.763 9.334,-2.282 9.44,1.79 9.986,3.245 10.937,3.554 ; 11.108,-2.976 10.747,-2.88 10.302,-1.844 10.388,1.447 10.807,2.297 11.249,2.391 ; 11.413,-3.708 10.462,-3.399 9.822,-1.964 9.918,1.704 10.481,2.808 11.591,3.106 ; 11.738,-2.495 10.965,-2.331 10.751,-1.878 10.833,1.241 11.112,1.76 ; 11.852,1.877 11.112,1.76 ; -7.08,8.743 -7.08,8.743 ; -4.032,-10.503 -4.032,-10.503 ; 11.112,1.76 11.112,1.76
  lines w0.35: -12.346,-1.955 -11.358,-1.799 ; -12.227,2.599 -11.249,2.391 ; 3.554,-10.937 3.863,-11.888 ; 4.121,10.736 4.48,11.67 ; 7.237,-8.937 7.866,-9.714 ; 7.695,8.546 8.364,9.289
  lines w0.5: -19.497,6.335 -22.615,4.191 -22.615,-4.191 -19.497,-6.335 -18.783,-6.103 ; -19.318,-4.106 -20.052,-4.262 -21.235,-3.363 -21.235,3.363 -20.052,4.262 -19.318,4.106 ; -19.077,-5.112 -19.801,-5.306 -21.929,-3.768 -21.929,3.768 -19.801,5.306 -19.077,5.112 ; -12.429,15.349 -12.901,15.931 -12.14,19.24 -10.593,20.133 -7.347,19.138 -7.078,18.438 ; -12.25,0 -11.996,0.314 ; -12.233,0.641 -11.996,0.314 ; -11.609,15.978 -12.05,16.585 -11.495,18.758 -10.497,19.334 -8.338,18.728 -8.033,18.042 ; -11.496,0.301 -11.996,0.314 ; -11.358,-1.799 -10.76,-1.194 -10.683,1.755 -11.249,2.391 ; -10.757,16.564 -11.165,17.193 -10.865,18.262 -10.383,18.54 -9.307,18.266 -8.966,17.597 ; -9.875,-17.104 -10.25,-17.753 -9.264,-23.22 ; -6.672,-10.274 -6.27,-10.232 ; -6.125,-10.609 -6.27,-10.232 ; -6.125,10.609 -5.726,10.546 ; -6.009,-9.805 -6.27,-10.232 ; -5.561,10.915 -5.726,10.546 ; -5.487,10.106 -5.726,10.546 ; 3.554,-10.937 3.822,-10.129 6.414,-8.722 7.237,-8.937 ; 4.106,-19.318 4.262,-20.052 7.678,-21.681 14.937,-17.489 15.234,-13.717 14.677,-13.215 ; 4.106,19.318 4.262,20.052 7.678,21.681 14.937,17.489 15.234,13.717 14.677,13.215 ; 4.121,10.736 4.346,9.915 6.861,8.374 7.695,8.546 ; 5.112,-19.077 5.306,-19.801 7.701,-20.875 14.227,-17.107 14.496,-14.496 13.965,-13.965 ; 5.112,19.077 5.306,19.801 7.701,20.875 14.227,17.107 14.496,14.496 13.965,13.965 ; 5.487,-10.106 5.726,-10.546 ; 5.561,-10.915 5.726,-10.546 ; 6.009,9.805 6.27,10.232 ; 6.103,-18.783 6.335,-19.497 7.705,-20.072 13.53,-16.709 13.717,-15.234 13.215,-14.677 ; 6.103,18.783 6.335,19.497 7.705,20.072 13.53,16.709 13.717,15.234 13.215,14.677 ; 6.125,-10.609 5.726,-10.546 ; 6.125,10.609 6.27,10.232 ; 6.672,10.274 6.27,10.232 ; 11.496,-0.301 11.996,-0.314 ; 12.233,-0.641 11.996,-0.314 ; 12.25,0 11.996,-0.314 ; 17.104,9.875 17.753,10.25 23.339,8.959 ; 18.783,-6.103 19.497,-6.335 22.615,-4.191 22.615,4.191 19.497,6.335 18.783,6.103 ; 19.077,-5.112 19.318,-5.176 19.801,-5.306 21.929,-3.768 21.929,3.768 19.801,5.306 19.077,5.112 ; 19.318,-4.106 20.052,-4.262 21.235,-3.363 21.235,3.363 20.052,4.262 19.318,4.106
  lines w1: -9.264,-23.22 ccw(c0,0) 23.339,8.959 cw(c0,0) -9.264,-23.22
Layer 2:
  lines w0.2: -20.5,0 -12.25,0 ; -20.472,-1.073 -11.484,-0.602 ; -20.472,1.073 -12.233,0.641 ; -20.388,-2.143 -11.934,-1.254 ; -20.388,2.143 -11.437,1.202 ; -20.248,-3.207 -11.358,-1.799 ; -20.248,3.207 -11.852,1.877 ; -20.052,-4.262 -11.738,-2.495 ; -20.052,4.262 -11.249,2.391 ; -19.801,-5.306 -11.108,-2.976 ; -19.801,5.306 -11.591,3.106 ; -19.497,-6.335 -11.413,-3.708 ; -19.497,6.335 -10.937,3.554 ; -19.138,-7.347 -10.736,-4.121 ; -19.138,7.347 -11.203,4.3 ; -18.728,-8.338 -10.963,-4.881 ; -18.728,8.338 -10.506,4.677 ; -18.266,-9.307 -10.247,-5.221 ; -18.266,9.307 -10.692,5.448 ; -17.754,-10.25 -10.392,-6 ; -17.754,10.25 -9.959,5.75 ; -17.193,-11.165 -9.645,-6.263 ; -17.193,11.165 -10.064,6.536 ; -16.585,-12.05 -9.708,-7.053 ; -16.585,12.05 -9.304,6.76 ; -15.931,-12.901 -8.937,-7.237 ; -15.931,12.901 -9.326,7.552 ; -15.234,-13.717 -8.918,-8.03 ; -15.234,13.717 -8.546,7.695 ; -14.496,-14.496 -8.132,-8.132 ; -14.496,14.496 -8.485,8.485 ; -13.717,-15.234 -8.03,-8.918 ; -13.717,15.234 -7.695,8.546 ; -12.901,-15.931 -7.237,-8.937 ; -12.901,15.931 -7.552,9.326 ; -12.05,-16.585 -7.053,-9.708 ; -12.05,16.585 -6.76,9.304 ; -11.165,-17.193 -6.672,-10.274 ; -11.165,17.193 -6.536,10.064 ; -10.25,-17.754 -6.125,-10.609 ; -10.25,17.754 -6.125,10.609 ; -9.307,-18.266 -5.448,-10.692 ; -9.307,18.266 -5.561,10.915 ; -8.338,-18.728 -4.677,-10.506 ; -8.338,18.728 -4.881,10.963 ; -7.347,-19.138 -4.3,-11.203 ; -7.347,19.138 -4.121,10.736 ; -6.335,-19.497 -3.554,-10.937 ; -6.335,19.497 -3.708,11.413 ; -5.306,-19.801 -3.106,-11.591 ; -5.306,19.801 -2.976,11.108 ; -4.262,-20.052 -2.391,-11.249 ; -4.262,20.052 -2.495,11.738 ; -3.207,-20.248 -1.877,-11.852 ; -3.207,20.248 -1.799,11.358 ; -2.143,-20.388 -1.202,-11.437 ; -2.143,20.388 -1.254,11.934 ; -1.073,-20.472 -0.628,-11.984 ; -1.073,20.472 -0.602,11.484 ; 0,-20.5 0,-11.5 ; 0,12 0,20.5 ; 0.602,11.484 1.073,20.472 ; 0.628,-11.984 1.073,-20.472 ; 1.202,-11.437 2.143,-20.388 ; 1.254,11.934 2.143,20.388 ; 1.799,11.358 3.207,20.248 ; 1.877,-11.852 3.207,-20.248 ; 2.391,-11.249 4.262,-20.052 ; 2.495,11.738 4.262,20.052 ; 2.976,11.108 5.306,19.801 ; 3.106,-11.591 5.306,-19.801 ; 3.554,-10.937 6.335,-19.497 ; 3.708,11.413 6.335,19.497 ; 4.121,10.736 7.347,19.138 ; 4.3,-11.203 7.347,-19.138 ; 4.677,-10.506 8.338,-18.728 ; 4.881,10.963 8.338,18.728 ; 5.221,10.247 9.307,18.266 ; 5.561,-10.915 9.307,-18.266 ; 6.125,-10.609 10.25,-17.754 ; 6.125,10.609 10.25,17.754 ; 6.263,-9.645 11.165,-17.193 ; 6.672,10.274 11.165,17.193 ; 6.76,9.304 12.05,16.585 ; 7.053,-9.708 12.05,-16.585 ; 7.237,-8.937 12.901,-15.931 ; 7.552,9.326 12.901,15.931 ; 7.695,8.546 13.717,15.234 ; 8.03,-8.918 13.717,-15.234 ; 8.132,-8.132 14.496,-14.496 ; 8.485,8.485 14.496,14.496 ; 8.546,7.695 15.234,13.717 ; 8.918,-8.03 15.234,-13.717 ; 8.937,-7.237 15.931,-12.901 ; 9.304,6.76 16.585,12.05 ; 9.326,7.552 15.931,12.901 ; 9.645,-6.263 17.193,-11.165 ; 9.708,-7.053 16.585,-12.05 ; 9.959,5.75 17.754,10.25 ; 10.064,6.536 17.193,11.165 ; 10.247,-5.221 18.266,-9.307 ; 10.392,-6 17.754,-10.25 ; 10.506,4.677 18.728,8.338 ; 10.692,5.448 18.266,9.307 ; 10.736,-4.121 19.138,-7.347 ; 10.937,3.554 19.497,6.335 ; 10.963,-4.881 18.728,-8.338 ; 11.108,-2.976 19.801,-5.306 ; 11.203,4.3 19.138,7.347 ; 11.249,2.391 20.052,4.262 ; 11.358,-1.799 20.248,-3.207 ; 11.413,-3.708 19.497,-6.335 ; 11.437,1.202 20.388,2.143 ; 11.591,3.106 19.801,5.306 ; 11.738,-2.495 20.052,-4.262 ; 11.852,1.877 20.248,3.207 ; 11.934,-1.254 20.388,-2.143 ; 11.984,0.628 20.472,1.073 ; 12.233,-0.641 20.472,-1.073 ; 12.25,0 20.5,0
  lines w0.25: -11.934,-1.254 -11.274,-1.185 -10.899,-0.792 -10.842,1.362 -11.196,1.773 -11.852,1.877 ; -11.413,-3.708 -10.462,-3.399 -9.682,-2.087 -9.56,2.591 -10.269,3.942 -11.203,4.3 ; -8.937,-7.237 -8.16,-6.608 -6.643,-6.942 -3.17,-9.071 -2.183,-10.271 -2.391,-11.249 ; -8.918,-8.03 -8.175,-7.36 -6.612,-7.524 -3.483,-9.441 -2.808,-10.481 -3.106,-11.591 ; -8.546,7.695 -7.803,7.026 -6.271,7.281 -2.691,9.224 -1.643,10.371 -1.799,11.358 ; -8.485,8.485 -7.673,7.673 -6.435,7.737 -3.21,9.488 -2.287,10.76 -2.495,11.738 ; -8.132,-8.132 -7.867,-7.867 -6.748,-8 -3.941,-9.72 -3.414,-10.508 -3.554,-10.937 ; -8.03,-8.918 -7.501,-8.33 -7.002,-8.372 -4.342,-10.002 -4.032,-10.503 -4.3,-11.203 ; -7.695,8.546 -7.393,8.211 -6.447,8.273 -3.554,9.843 -2.88,10.747 -2.976,11.108 ; -7.552,9.326 -7.08,8.743 -6.491,8.761 -3.749,10.249 -3.464,10.661 -3.708,11.413 ; 1.877,-11.852 1.721,-10.865 2.536,-9.574 6.649,-7.341 8.175,-7.36 8.918,-8.03 ; 2.495,11.738 2.287,10.76 3.034,9.429 7.024,6.983 8.549,6.923 9.326,7.552 ; 4.3,-11.203 4.062,-10.583 4.242,-10.07 6.136,-9.042 6.663,-9.171 7.053,-9.708 ; 4.881,10.963 4.611,10.356 4.763,9.835 6.6,8.709 7.134,8.81 7.552,9.326 ; 10.736,-4.121 9.803,-3.763 9.334,-2.282 9.44,1.79 9.986,3.245 10.937,3.554 ; 11.108,-2.976 10.747,-2.88 10.302,-1.844 10.388,1.447 10.807,2.297 11.249,2.391 ; 11.413,-3.708 10.462,-3.399 9.822,-1.964 9.918,1.704 10.481,2.808 11.591,3.106 ; 11.738,-2.495 10.965,-2.331 10.751,-1.878 10.833,1.241 11.112,1.76 11.852,1.877
  lines w0.35: -12.074,-3.235 -11.108,-2.976 ; -11.888,3.863 -10.937,3.554 ; 2.391,-11.249 2.599,-12.227 ; 2.976,11.108 3.235,12.074 ; 8.132,-8.132 8.839,-8.839 ; 8.546,7.695 9.289,8.364
  lines w0.5: -18.438,-7.078 -19.138,-7.347 -21.25,-6.161 -21.25,6.161 -19.138,7.347 -18.438,7.078 ; -18.042,-8.033 -18.728,-8.338 -21.965,-6.82 -21.965,6.82 -18.728,8.338 -18.042,8.033 ; -17.597,-8.966 -18.266,-9.307 -22.825,-7.416 -22.825,7.416 -18.266,9.307 -17.597,8.966 ; -17.193,11.165 -17.835,16.059 -4.99,23.475 -1.073,20.472 -1.034,19.723 ; -16.564,-10.757 -17.193,-11.165 -17.835,-16.059 -4.99,-23.475 -1.073,-20.472 -1.034,-19.723 ; -15.978,-11.609 -16.585,-12.05 -16.889,-15.612 -5.076,-22.433 -2.143,-20.388 -2.064,-19.642 ; -15.978,11.609 -16.585,12.05 -16.889,15.612 -5.076,22.433 -2.143,20.388 -2.064,19.642 ; -15.349,-12.429 -15.931,-12.901 -15.96,-15.323 -5.29,-21.483 -3.207,-20.248 -3.09,-19.507 ; -15.349,12.429 -15.931,12.901 -15.96,15.323 -5.29,21.483 -3.207,20.248 -3.09,19.507 ; -12.25,0 -11.996,0.314 ; -12.233,0.641 -11.996,0.314 ; -11.496,0.301 -11.996,0.314 ; -11.108,-2.976 -10.299,-1.716 -10.195,2.253 -10.937,3.554 ; -6.672,-10.274 -6.27,-10.232 ; -6.125,-10.609 -6.27,-10.232 ; -6.125,10.609 -5.726,10.546 ; -6.009,-9.805 -6.27,-10.232 ; -5.561,10.915 -5.726,10.546 ; -5.487,10.106 -5.726,10.546 ; 0,19.75 0,20.5 3.911,24.692 ; 2.391,-11.249 3.147,-9.955 6.635,-8.061 8.132,-8.132 ; 2.976,11.108 3.663,9.777 7.048,7.703 8.546,7.695 ; 5.487,-10.106 5.726,-10.546 ; 5.561,-10.915 5.726,-10.546 ; 6.009,9.805 6.27,10.232 ; 6.125,-10.609 5.726,-10.546 ; 6.125,10.609 6.27,10.232 ; 6.672,10.274 6.27,10.232 ; 7.078,18.438 7.347,19.138 10.593,20.133 12.14,19.24 12.901,15.931 12.429,15.349 ; 8.033,18.042 8.338,18.728 10.497,19.334 11.495,18.758 12.05,16.585 11.609,15.978 ; 8.966,17.597 9.307,18.266 10.383,18.541 10.865,18.262 11.165,17.193 10.757,16.564 ; 9.875,-17.104 10.25,-17.753 15.477,-19.633 ; 11.496,-0.301 11.996,-0.314 ; 12.233,-0.641 11.996,-0.314 ; 12.25,0 11.996,-0.314 ; 17.597,-8.966 18.266,-9.307 22.825,-7.416 22.825,7.416 18.266,9.307 17.597,8.966 ; 18.042,-8.033 18.728,-8.338 21.965,-6.82 21.965,6.82 18.728,8.338 18.042,8.033 ; 18.438,-7.078 19.138,-7.347 21.25,-6.161 21.25,6.161 19.138,7.347 18.438,7.078
  lines w1: 3.911,24.692 cw(c0,0) 15.477,-19.633 ccw(c0,0) 3.911,24.692
Bottom Layer:
  lines w0.2: -20.5,0 -12.25,0 ; -20.472,-1.073 -11.484,-0.602 ; -20.472,1.073 -12.233,0.641 ; -20.388,-2.143 -11.934,-1.254 ; -20.388,2.143 -11.437,1.202 ; -20.248,-3.207 -11.358,-1.799 ; -20.248,3.207 -11.852,1.877 ; -20.052,-4.262 -11.738,-2.495 ; -20.052,4.262 -11.249,2.391 ; -19.801,-5.306 -11.108,-2.976 ; -19.801,5.306 -11.591,3.106 ; -19.497,-6.335 -11.413,-3.708 ; -19.497,6.335 -10.937,3.554 ; -19.138,-7.347 -10.736,-4.121 ; -19.138,7.347 -11.203,4.3 ; -18.728,-8.338 -10.963,-4.881 ; -18.728,8.338 -10.506,4.677 ; -18.266,-9.307 -10.247,-5.221 ; -18.266,9.307 -10.692,5.448 ; -17.754,-10.25 -10.392,-6 ; -17.754,10.25 -9.959,5.75 ; -17.193,-11.165 -9.645,-6.263 ; -17.193,11.165 -10.064,6.536 ; -16.585,-12.05 -9.708,-7.053 ; -16.585,12.05 -9.304,6.76 ; -15.931,-12.901 -8.937,-7.237 ; -15.931,12.901 -9.326,7.552 ; -15.234,-13.717 -8.918,-8.03 ; -15.234,13.717 -8.546,7.695 ; -14.496,-14.496 -8.132,-8.132 ; -14.496,14.496 -8.485,8.485 ; -13.717,-15.234 -8.03,-8.918 ; -13.717,15.234 -7.695,8.546 ; -12.901,-15.931 -7.237,-8.937 ; -12.901,15.931 -7.552,9.326 ; -12.05,-16.585 -7.053,-9.708 ; -12.05,16.585 -6.76,9.304 ; -11.165,-17.193 -6.672,-10.274 ; -11.165,17.193 -6.536,10.064 ; -10.25,-17.754 -6.125,-10.609 ; -10.25,17.754 -6.125,10.609 ; -9.307,-18.266 -5.448,-10.692 ; -9.307,18.266 -5.561,10.915 ; -8.338,-18.728 -4.677,-10.506 ; -8.338,18.728 -4.881,10.963 ; -7.347,-19.138 -4.3,-11.203 ; -7.347,19.138 -4.121,10.736 ; -6.335,-19.497 -3.554,-10.937 ; -6.335,19.497 -3.708,11.413 ; -5.306,-19.801 -3.106,-11.591 ; -5.306,19.801 -2.976,11.108 ; -4.262,-20.052 -2.391,-11.249 ; -4.262,20.052 -2.495,11.738 ; -3.207,-20.248 -1.877,-11.852 ; -3.207,20.248 -1.799,11.358 ; -2.143,-20.388 -1.202,-11.437 ; -2.143,20.388 -1.254,11.934 ; -1.073,-20.472 -0.628,-11.984 ; -1.073,20.472 -0.602,11.484 ; 0,-20.5 0,-11.5 ; 0,12 0,20.5 ; 0.602,11.484 1.073,20.472 ; 0.628,-11.984 1.073,-20.472 ; 1.202,-11.437 2.143,-20.388 ; 1.254,11.934 2.143,20.388 ; 1.799,11.358 3.207,20.248 ; 1.877,-11.852 3.207,-20.248 ; 2.391,-11.249 4.262,-20.052 ; 2.495,11.738 4.262,20.052 ; 2.976,11.108 5.306,19.801 ; 3.106,-11.591 5.306,-19.801 ; 3.554,-10.937 6.335,-19.497 ; 3.708,11.413 6.335,19.497 ; 4.121,10.736 7.347,19.138 ; 4.3,-11.203 7.347,-19.138 ; 4.677,-10.506 8.338,-18.728 ; 4.881,10.963 8.338,18.728 ; 5.221,10.247 9.307,18.266 ; 5.561,-10.915 9.307,-18.266 ; 6.125,-10.609 10.25,-17.754 ; 6.125,10.609 10.25,17.754 ; 6.263,-9.645 11.165,-17.193 ; 6.672,10.274 11.165,17.193 ; 6.76,9.304 12.05,16.585 ; 7.053,-9.708 12.05,-16.585 ; 7.237,-8.937 12.901,-15.931 ; 7.552,9.326 12.901,15.931 ; 7.695,8.546 13.717,15.234 ; 8.03,-8.918 13.717,-15.234 ; 8.132,-8.132 14.496,-14.496 ; 8.485,8.485 14.496,14.496 ; 8.546,7.695 15.234,13.717 ; 8.918,-8.03 15.234,-13.717 ; 8.937,-7.237 15.931,-12.901 ; 9.304,6.76 16.585,12.05 ; 9.326,7.552 15.931,12.901 ; 9.645,-6.263 17.193,-11.165 ; 9.708,-7.053 16.585,-12.05 ; 9.959,5.75 17.754,10.25 ; 10.064,6.536 17.193,11.165 ; 10.247,-5.221 18.266,-9.307 ; 10.392,-6 17.754,-10.25 ; 10.506,4.677 18.728,8.338 ; 10.692,5.448 18.266,9.307 ; 10.736,-4.121 19.138,-7.347 ; 10.937,3.554 19.497,6.335 ; 10.963,-4.881 18.728,-8.338 ; 11.108,-2.976 19.801,-5.306 ; 11.203,4.3 19.138,7.347 ; 11.249,2.391 20.052,4.262 ; 11.358,-1.799 20.248,-3.207 ; 11.413,-3.708 19.497,-6.335 ; 11.437,1.202 20.388,2.143 ; 11.591,3.106 19.801,5.306 ; 11.738,-2.495 20.052,-4.262 ; 11.852,1.877 20.248,3.207 ; 11.934,-1.254 20.388,-2.143 ; 11.984,0.628 20.472,1.073 ; 12.233,-0.641 20.472,-1.073 ; 12.25,0 20.5,0
  lines w0.25: -11.738,-2.495 -11.104,-2.36 -10.804,-2.065 -10.681,2.627 -10.965,2.938 -11.591,3.106 ; -10.963,-4.881 -10.049,-4.474 -9.679,-3.682 -9.473,4.184 -9.801,4.994 -10.692,5.448 ; -10.392,-6 -9.188,-5.305 -0.551,-10.52 -0.628,-11.984 ; -10.064,6.536 -8.835,5.737 0,10.609 0,12 ; -9.708,-7.053 -8.92,-6.481 -1.725,-10.89 -1.877,-11.852 ; -9.645,-6.263 -9.053,-5.879 -1.128,-10.735 -1.202,-11.437 ; -9.326,7.552 -8.568,6.939 -1.152,10.965 -1.254,11.934 ; -9.304,6.76 -8.733,6.345 -0.565,10.779 -0.602,11.484 ; 0.628,-11.984 0.576,-10.985 1.113,-10.296 8.029,-6.541 8.899,-6.466 9.708,-7.053 ; 1.254,11.934 1.15,10.94 1.651,10.224 8.36,6.112 9.225,5.991 10.064,6.536 ; 3.106,-11.591 2.938,-10.965 3.065,-10.564 7.19,-8.324 7.596,-8.436 8.03,-8.918 ; 3.708,11.413 3.508,10.796 3.614,10.389 7.616,7.937 8.027,8.027 8.485,8.485 ; 10.247,-5.221 9.618,-4.9 9.861,4.39 10.506,4.677 ; 10.392,-6 9.188,-5.305 9.386,4.782 10.692,5.448 ; 10.963,-4.881 10.072,-4.484 10.293,3.951 11.203,4.3
  lines w0.35: -11.67,-4.48 -10.736,-4.121 ; -11.419,5.084 -10.506,4.677 ; -7.866,-9.714 -7.237,-8.937 ; -7.347,10.113 -6.76,9.304 ; -5.084,-11.419 -4.677,-10.506 ; -4.48,11.67 -4.121,10.736 ; 1.202,-11.437 1.307,-12.431 ; 1.799,11.358 1.955,12.346 ; 8.937,-7.237 9.714,-7.866 ; 9.304,6.76 10.113,7.347 ; 11.358,-1.799 12.346,-1.955 ; 11.437,1.202 12.431,1.307
  lines w0.5: -19.723,-1.034 -20.472,-1.073 -21.248,-0.278 -21.248,0.278 -20.472,1.073 -19.723,1.034 ; -19.642,-2.064 -20.388,-2.143 -21.992,-0.576 -21.992,0.576 -20.388,2.143 -19.642,2.064 ; -19.507,-3.09 -20.248,-3.207 -22.732,-0.893 -22.732,0.893 -20.248,3.207 -19.507,3.09 ; -19.429,15.733 -17.754,10.25 -17.104,9.875 ; -14.677,13.215 -15.234,13.717 -14.937,17.489 -7.678,21.681 -4.262,20.052 -4.106,19.318 ; -13.965,13.965 -14.496,14.496 -14.227,17.107 -7.701,20.875 -5.306,19.801 -5.112,19.077 ; -13.215,14.677 -13.717,15.234 -13.53,16.709 -7.705,20.072 -6.335,19.497 -6.103,18.783 ; -12.429,-15.349 -12.901,-15.931 -12.14,-19.24 -10.593,-20.133 -7.347,-19.138 -7.078,-18.438 ; -12.25,0 -11.996,0.314 ; -12.233,0.641 -11.996,0.314 ; -11.609,-15.978 -12.05,-16.585 -11.495,-18.758 -10.497,-19.334 -8.338,-18.728 -8.033,-18.042 ; -11.496,0.301 -11.996,0.314 ; -10.757,-16.564 -11.165,-17.193 -10.865,-18.262 -10.383,-18.541 -9.307,-18.266 -8.966,-17.597 ; -10.736,-4.121 -10.267,-3.263 -10.082,3.796 -10.506,4.677 ; -7.237,-8.937 -7.101,-8.769 -6.579,-8.635 -4.723,-9.773 -4.599,-10.328 -4.677,-10.506 ; -6.76,9.304 -6.645,9.147 -6.102,8.976 -4.189,10.015 -4.044,10.534 -4.121,10.736 ; -6.672,-10.274 -6.27,-10.232 ; -6.125,-10.609 -6.27,-10.232 ; -6.125,10.609 -5.726,10.546 ; -6.009,-9.805 -6.27,-10.232 ; -5.561,10.915 -5.726,10.546 ; -5.487,10.106 -5.726,10.546 ; 1.034,19.723 1.073,20.472 4.99,23.475 17.835,16.059 17.193,11.165 16.564,10.757 ; 1.202,-11.437 1.754,-10.63 7.96,-7.26 8.937,-7.237 ; 1.799,11.358 2.308,10.523 8.329,6.834 9.304,6.76 ; 2.064,19.642 2.143,20.388 5.076,22.433 16.889,15.612 16.585,12.05 15.978,11.609 ; 3.09,19.507 3.207,20.248 5.29,21.483 15.96,15.323 15.931,12.901 15.349,12.429 ; 5.487,-10.106 5.726,-10.546 ; 5.561,-10.915 5.726,-10.546 ; 6.009,9.805 6.27,10.232 ; 6.125,-10.609 5.726,-10.546 ; 6.125,10.609 6.27,10.232 ; 6.672,10.274 6.27,10.232 ; 7.078,-18.438 7.347,-19.138 10.593,-20.133 12.14,-19.24 12.901,-15.931 12.429,-15.349 ; 8.033,-18.042 8.338,-18.728 10.497,-19.334 11.495,-18.758 12.05,-16.585 11.609,-15.978 ; 8.966,-17.597 9.307,-18.266 10.383,-18.541 10.865,-18.262 11.165,-17.193 10.757,-16.564 ; 11.358,-1.799 11.145,-1.765 10.768,-1.38 10.825,0.796 11.244,1.182 11.437,1.202 ; 11.496,-0.301 11.996,-0.314 ; 12.233,-0.641 11.996,-0.314 ; 12.25,0 11.996,-0.314 ; 19.75,0 20.5,0 24.741,3.587
  lines w1: -19.429,15.733 cw(c0,0) 24.741,3.587 ccw(c0,0) -19.429,15.733
Mechanical 1:
  circle w0.2: c0,0 r5.5
  circle w0.2: c0,0 r20
  circle w0.2: c0,0 r12.5